# Altium schematic symbol library nucleo_st_link.SchLib: 1 symbol
Pins are listed as number, name and electrical type; pins without a type are passive.

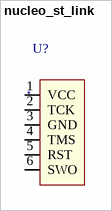
[diagram p0: symbol nucleo_st_link]

## nucleo_st_link
designator U?
PDF: *; PRICE: *; ID: *; BUY_LINK: *
footprint nucleo_st_link
pins: 1 VCC, 2 TCK, 3 GND, 4 TMS, 5 RST, 6 SWO